# EAGLE library part BAT754L (library nxp_60)
Schottky barrier triple diode Three internal (galvanic) isolated silicon epitaxial Schottky barrier diodes in a SOT363 small SMD plastic package. AAL Eindhoven MK
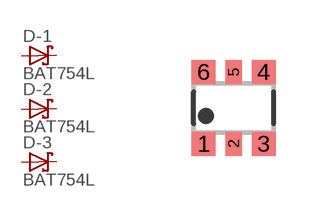
[diagram p99: symbol with the pads of SOT363; footprint SOT363]

Designator prefix D; gates -1=DIODE_SCHOTTKY -2=DIODE_SCHOTTKY -3=DIODE_SCHOTTKY

## BAT754L  [SOT363]
1  -1:A  pas
2  -2:A  pas
3  -3:A  pas
4  -3:K  pas
5  -2:K  pas
6  -1:K  pas

## Footprint SOT363 (pad centres in mm)
SOT363 Plastic surface-mounted package; 6 leads JEDEC: -- IEC: -- JEITA: SC-88
smd 0.6 x 0.6: 1 -0.75,-0.9; 3 0.75,-0.9; 4 0.75,0.9; 6 -0.75,0.9
smd 0.4 x 0.6: 2 0,-0.9; 5 0,0.9